# EAGLE library part PCA9306 (library DSDEagleLibrary)
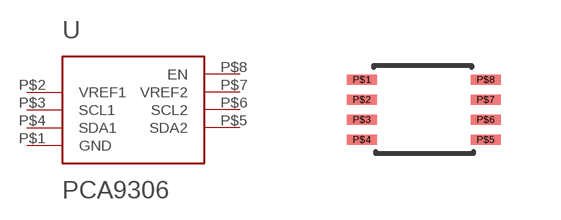
[diagram p57: symbol with the pads of DCU_8PIN_VSSOP; footprint DCU_8PIN_VSSOP]

Designator prefix U

## PCA9306  [DCU_8PIN_VSSOP]
P$1  GND
P$2  VREF1
P$3  SCL1
P$4  SDA1
P$5  SDA2
P$6  SCL2
P$7  VREF2
P$8  EN

## Footprint DCU_8PIN_VSSOP (pad centres in mm)
smd 0.75 x 0.25: P$1 0,0; P$2 0,-0.5; P$3 0,-1; P$4 0,-1.5; P$5 3.1,-1.5; P$6 3.1,-1; P$7 3.1,-0.5; P$8 3.1,0